# Altium footprint library CH563EVT封装库.PcbLib: 20 footprints (part 1 of 2)
Each footprint in its own frame and in the unit in brackets; x right, y up, seen from the top. Pads: shape width x height; smd on the part's side, far side on the other; paste and mask are expansions set on the pad; w line width, h text height; cw(c..) or ccw(c..) is an arc to the next point about the centre after c.
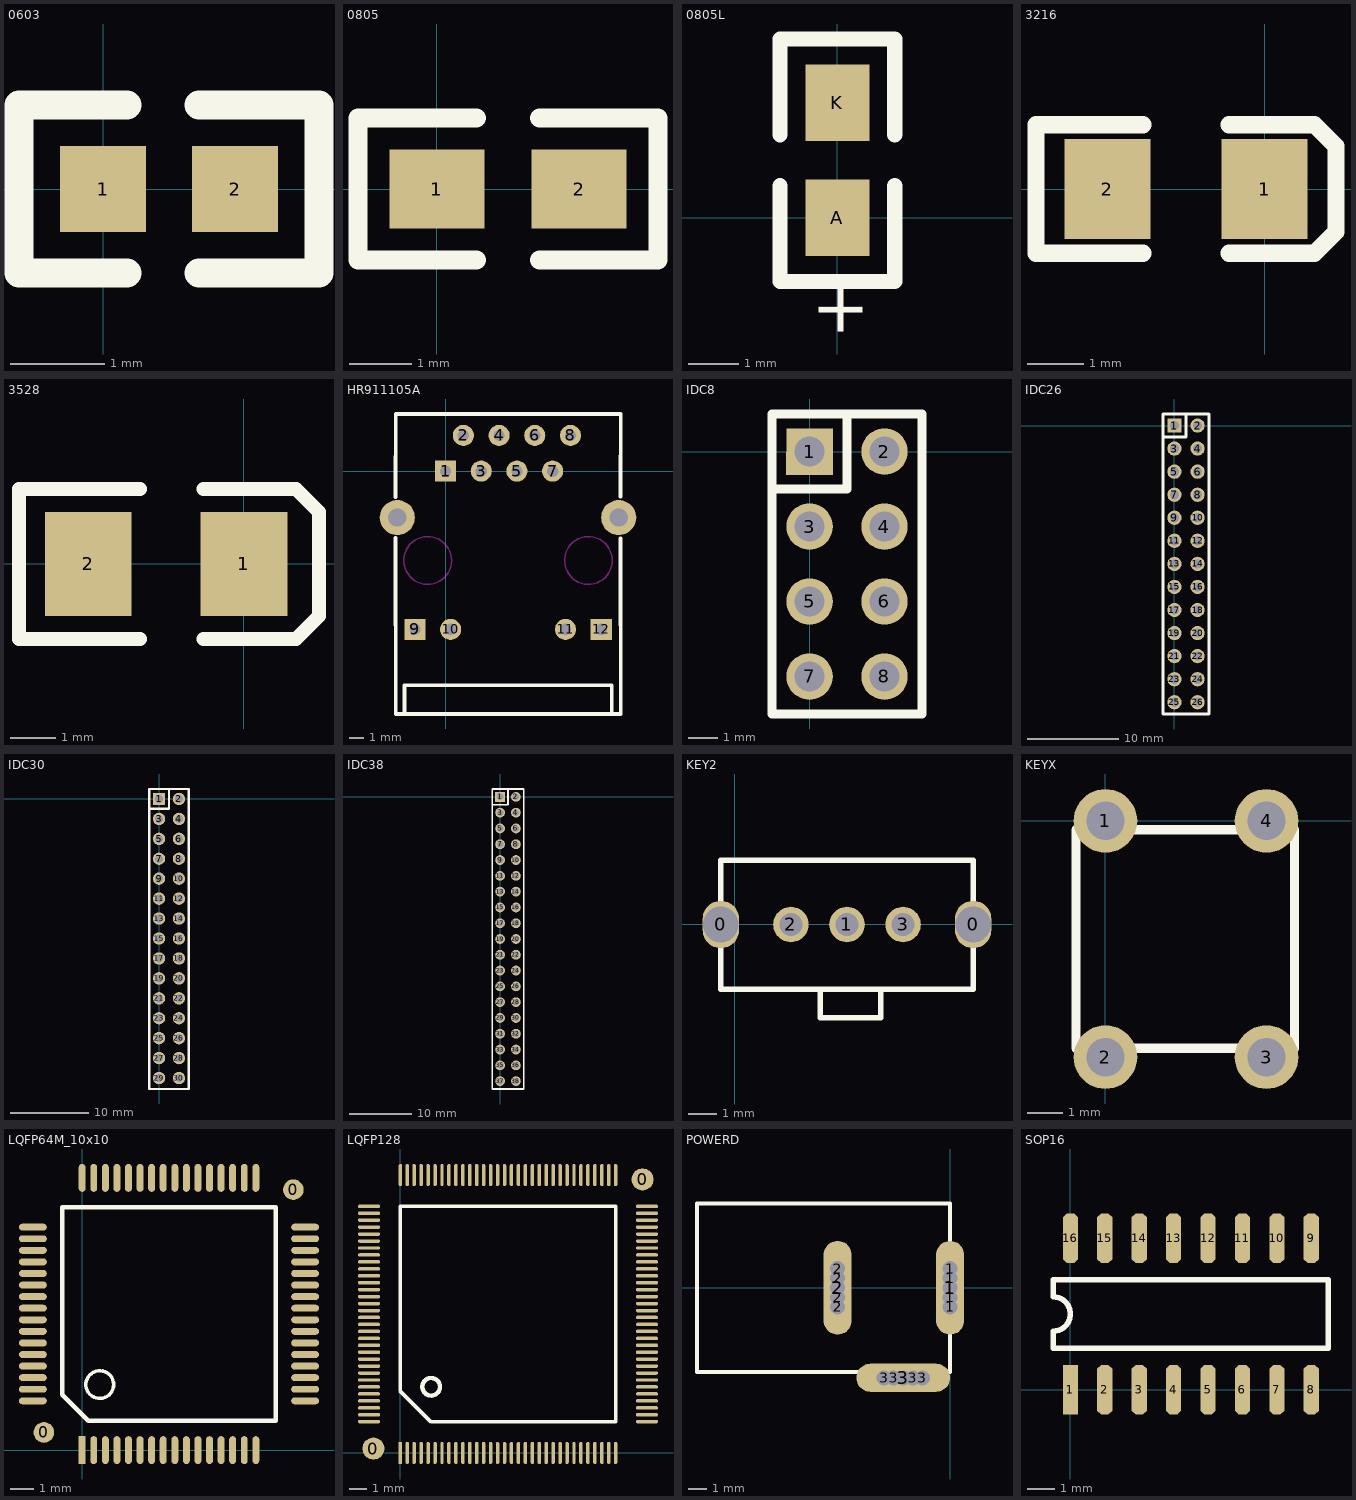
[diagram p0: the footprints below, top view; thin cyan lines are the x and y axes]

## 0603 [mil]
pads (2):
  rect 36x36 smd: 1(0,0) 2(55,0)
Top Overlay:
  lines w12: 10,-35 -35,-35 -35,35 10,35 ; 40,-35 90,-35 90,35 40,35

## 0805 [mil]
pads (2):
  rect 60x50 smd: 1(0,0) 2(90,0)
Top Overlay:
  lines w12: 25,-45 -50,-45 -50,45 25,45 ; 65,-45 140,-45 140,45 65,45

## 0805L [mil]
pads (2):
  rect 50x60 smd: A(0,0) K(0,90)
Top Overlay:
  lines w12: -45,25 -45,-50 45,-50 45,25 ; -45,65 -45,140 45,140 45,65
  text "+" at 20,-95 h40

## 3216 [mil]
pads (2):
  rect 60x70 smd: 1(0,0) 2(-110,0)
Top Overlay:
  lines w12: -85,-45 -160,-45 -160,45 -85,45 ; -25,-45 35,-45 50,-30 50,30 35,45 -25,45

## 3528 [mil]
pads (2):
  rect 75x90 smd: 1(0,0) 2(-135,0)
Top Overlay:
  lines w12: -90,-65 -195,-65 -195,65 -90,65 ; -35,-65 45,-65 65,-45 65,45 45,65 -35,65

## HR911105A [mm]
pads (14):
  rect 1.5x1.5 hole 0.8: 1(0,0) 9(-2.175,-11.252) 12(11.075,-11.252)
  round 1.5 hole 0.8: 2(1.27,2.54) 3(2.54,0) 4(3.81,2.54) 5(5.08,0) 6(6.35,2.54) 7(7.62,0) 8(8.89,2.54) 10(0.365,-11.252) 11(8.535,-11.252)
  round 2.5 hole 1.3: ""(-3.43,-3.3) ""(12.32,-3.3)
Top Overlay:
  lines w0.254: -3.556,-4.724 -3.55,-17.272 12.45,-17.272 12.446,-4.775 ; -3.556,-1.854 -3.55,4.064 12.45,4.064 12.446,-1.803 ; -2.916,-17.272 -2.916,-15.24 11.816,-15.24 11.816,-17.272
Keep-Out Layer:
  circle w0.1: c10.165,-6.352 r1.7
  circle w0.1: c-1.265,-6.352 r1.7

## IDC8 [mil]
pads (8):
  rect 62x62 hole 40: 1(0,0)
  round 62 hole 40: 2(100,0) 3(0,-100) 4(100,-100) 5(0,-200) 6(100,-200) 7(0,-300) 8(100,-300)
Top Overlay:
  lines w12: -50,-50 50,-50 50,50 ; -50,-350 -50,50 150,50 150,-350 -50,-350

## IDC26 [mil]
pads (26):
  rect 62x62 hole 40: 1(0,0)
  round 62 hole 40: 2(100,0) 3(0,-100) 4(100,-100) 5(0,-200) 6(100,-200) 7(0,-300) 8(100,-300) 9(0,-400) 10(100,-400) 11(0,-500) 12(100,-500) 13(0,-600) 14(100,-600) 15(0,-700) 16(100,-700) 17(0,-800) 18(100,-800) 19(0,-900) 20(100,-900) 21(0,-1000) 22(100,-1000) 23(0,-1100) 24(100,-1100) 25(0,-1200) 26(100,-1200)
Top Overlay:
  lines w12: -50,-50 50,-50 50,50 ; -50,-1251 150,-1251 150,50 -50,50 -50,-1251

## IDC30 [mil]
pads (30):
  rect 62x62 hole 40: 1(0,0)
  round 62 hole 40: 2(100,0) 3(0,-100) 4(100,-100) 5(0,-200) 6(100,-200) 7(0,-300) 8(100,-300) 9(0,-400) 10(100,-400) 11(0,-500) 12(100,-500) 13(0,-600) 14(100,-600) 15(0,-700) 16(100,-700) 17(0,-800) 18(100,-800) 19(0,-900) 20(100,-900) 21(0,-1000) 22(100,-1000) 23(0,-1100) 24(100,-1100) 25(0,-1200) 26(100,-1200) 27(0,-1300) 28(100,-1300) 29(0,-1400) 30(100,-1400)
Top Overlay:
  lines w12: -50,-50 50,-50 50,50 ; -50,-1455 -50,50 150,50 150,-1455 -50,-1455

## IDC38 [mil]
pads (38):
  rect 62x62 hole 40: 1(0,0)
  round 62 hole 40: 2(100,0) 3(0,-100) 4(100,-100) 5(0,-200) 6(100,-200) 7(0,-300) 8(100,-300) 9(0,-400) 10(100,-400) 11(0,-500) 12(100,-500) 13(0,-600) 14(100,-600) 15(0,-700) 16(100,-700) 17(0,-800) 18(100,-800) 19(0,-900) 20(100,-900) 21(0,-1000) 22(100,-1000) 23(0,-1100) 24(100,-1100) 25(0,-1200) 26(100,-1200) 27(0,-1300) 28(100,-1300) 29(0,-1400) 30(100,-1400) 31(0,-1500) 32(100,-1500) 33(0,-1600) 34(100,-1600) 35(0,-1700) 36(100,-1700) 37(0,-1800) 38(100,-1800)
Top Overlay:
  lines w12: -50,-50 50,-50 50,50 ; -50,-1850 -50,50 150,50 150,-1850 -50,-1850

## KEY2 [mm]
pads (5):
  oval 1.3x1.7 hole 1.27: 0(-0.5,0) 0(8.5,0)
  round 1.27 hole 0.813: 1(4,0) 2(2,0) 3(6,0)
Top Overlay:
  lines w0.203: -0.508,-2.311 -0.508,2.289 ; -0.5,-2.311 8.5,-2.311 8.5,2.289 -0.5,2.289 ; 3.048,-2.311 3.048,-3.325 5.207,-3.325 5.207,-2.311

## KEYX [mil]
pads (4):
  round 70 hole 42: 1(0,0) 2(0,-259.84) 3(177.17,-259.84) 4(177.17,0)
Top Overlay:
  lines w10: -32.16,-250 -32.16,-9.84 208,-9.84 208,-250 -32.16,-250

## LQFP64M_10x10 [mm]
pads (66):
  round 0.889 smd: 0(-1.651,0.762) 0(9.119,11.246)
  rect 0.3x1.2 smd: 1(0,0)
  oval 0.3x1.2 smd: 2(0.5,0) 3(1,0) 4(1.5,0) 5(2,0) 6(2.5,0) 7(3,0) 8(3.5,0) 9(4,0) 10(4.5,0) 11(5,0) 12(5.5,0) 13(6,0) 14(6.5,0) 15(7,0) 16(7.5,0) 33(7.5,11.754) 34(7,11.754) 35(6.5,11.754) 36(6,11.754) 37(5.5,11.754) 38(5,11.754) 39(4.5,11.754) 40(4,11.754) 41(3.5,11.754) 42(3,11.754) 43(2.5,11.754) 44(2,11.754) 45(1.5,11.754) 46(1,11.754) 47(0.5,11.754) 48(0,11.754)
  oval 1.2x0.3 smd: 17(9.627,2.127) 18(9.627,2.627) 19(9.627,3.127) 20(9.627,3.627) 21(9.627,4.127) 22(9.627,4.627) 23(9.627,5.127) 24(9.627,5.627) 25(9.627,6.127) 26(9.627,6.627) 27(9.627,7.127) 28(9.627,7.627) 29(9.627,8.127) 30(9.627,8.627) 31(9.627,9.127) 32(9.627,9.627) 49(-2.127,9.627) 50(-2.127,9.127) 51(-2.127,8.627) 52(-2.127,8.127) 53(-2.127,7.627) 54(-2.127,7.127) 55(-2.127,6.627) 56(-2.127,6.127) 57(-2.127,5.627) 58(-2.127,5.127) 59(-2.127,4.627) 60(-2.127,4.127) 61(-2.127,3.627) 62(-2.127,3.127) 63(-2.127,2.627) 64(-2.127,2.127)
Top Overlay:
  circle w0.152: c0.762,2.829 r0.6
  lines w0.2: -0.865,2.397 -0.865,10.492 8.365,10.492 8.365,1.262 0.27,1.262 -0.865,2.397

## LQFP128 [mm]
pads (130):
  round 1.27 smd: 0(-1.546,0.254) 0(13.946,15.746)
  rect 0.2x1.27 smd: 1(0,0)
  oval 0.2x1.27 smd: 2(0.4,0) 3(0.8,0) 4(1.2,0) 5(1.6,0) 6(2,0) 7(2.4,0) 8(2.8,0) 9(3.2,0) 10(3.6,0) 11(4,0) 12(4.4,0) 13(4.8,0) 14(5.2,0) 15(5.6,0) 16(6,0) 17(6.4,0) 18(6.8,0) 19(7.2,0) 20(7.6,0) 21(8,0) 22(8.4,0) 23(8.8,0) 24(9.2,0) 25(9.6,0) 26(10,0) 27(10.4,0) 28(10.8,0) 29(11.2,0) 30(11.6,0) 31(12,0) 32(12.4,0) 65(12.4,16) 66(12,16) 67(11.6,16) 68(11.2,16) 69(10.8,16) 70(10.4,16) 71(10,16) 72(9.6,16) 73(9.2,16) 74(8.8,16) 75(8.4,16) 76(8,16) 77(7.6,16) 78(7.2,16) 79(6.8,16) 80(6.4,16) 81(6,16) 82(5.6,16) 83(5.2,16) 84(4.8,16) 85(4.4,16) 86(4,16) 87(3.6,16) 88(3.2,16) 89(2.8,16) 90(2.4,16) 91(2,16) 92(1.6,16) 93(1.2,16) 94(0.8,16) 95(0.4,16) 96(0,16)
  oval 1.27x0.2 smd: 33(14.2,1.8) 34(14.2,2.2) 35(14.2,2.6) 36(14.2,3) 37(14.2,3.4) 38(14.2,3.8) 39(14.2,4.2) 40(14.2,4.6) 41(14.2,5) 42(14.2,5.4) 43(14.2,5.8) 44(14.2,6.2) 45(14.2,6.6) 46(14.2,7) 47(14.2,7.4) 48(14.2,7.8) 49(14.2,8.2) 50(14.2,8.6) 51(14.2,9) 52(14.2,9.4) 53(14.2,9.8) 54(14.2,10.2) 55(14.2,10.6) 56(14.2,11) 57(14.2,11.4) 58(14.2,11.8) 59(14.2,12.2) 60(14.2,12.6) 61(14.2,13) 62(14.2,13.4) 63(14.2,13.8) 64(14.2,14.2) 97(-1.8,14.2) 98(-1.8,13.8) 99(-1.8,13.4) 100(-1.8,13) 101(-1.8,12.6) 102(-1.8,12.2) 103(-1.8,11.8) 104(-1.8,11.4) 105(-1.8,11) 106(-1.8,10.6) 107(-1.8,10.2) 108(-1.8,9.8) 109(-1.8,9.4) 110(-1.8,9) 111(-1.8,8.6) 112(-1.8,8.2) 113(-1.8,7.8) 114(-1.8,7.4) 115(-1.8,7) 116(-1.8,6.6) 117(-1.8,6.2) 118(-1.8,5.8) 119(-1.8,5.4) 120(-1.8,5) 121(-1.8,4.6) 122(-1.8,4.2) 123(-1.8,3.8) 124(-1.8,3.4) 125(-1.8,3) 126(-1.8,2.6) 127(-1.8,2.2) 128(-1.8,1.8)
Top Overlay:
  circle w0.254: c1.778,3.81 r0.508
  lines w0.2: -0.015,3.57 -0.015,14.215 12.415,14.215 12.415,1.785 1.77,1.785 -0.015,3.57

## POWERD [mm]
pads (15):
  round 1 hole 0.8: 1(0,-1.016) 1(0,-0.508) 1(0,0.508) 1(0,1.016) 2(-6,-1.016) 2(-6,-0.508) 2(-6,0.508) 2(-6,1.016) 3(-3.516,-4.8) 3(-3.008,-4.8) 3(-1.992,-4.8) 3(-1.484,-4.8)
  oval 1.5x5 hole 0.8: 1(0,0) 2(-6,0)
  oval 5x1.5 hole 0.8: 3(-2.5,-4.8)
Top Overlay:
  lines w0.203: -13.5,-4.5 -13.5,4.5 0,4.5 0,-4.5 -13.5,-4.5

## SOP16 [mil]
pads (16):
  rect 22x72 smd: 1(0,0)
  oct 22x72 smd: 2(50,0) 3(100,0) 4(150,0) 5(200,0) 6(250,0) 7(300,0) 8(350,0) 9(350,220) 10(300,220) 11(250,220) 12(200,220) 13(150,220) 14(100,220) 15(50,220) 16(0,220)
Top Overlay:
  lines w8: -25,60 -25,85 ccw(c-25,110) -25,135 -25,160 375,160 375,60 -25,60